# Altium footprint library WM7620CT-ND.PcbLib: 1 footprints
Each footprint in its own frame and in the unit in brackets; x right, y up, seen from the top. Pads: shape width x height; smd on the part's side, far side on the other; paste and mask are expansions set on the pad; w line width, h text height; cw(c..) or ccw(c..) is an arc to the next point about the centre after c.
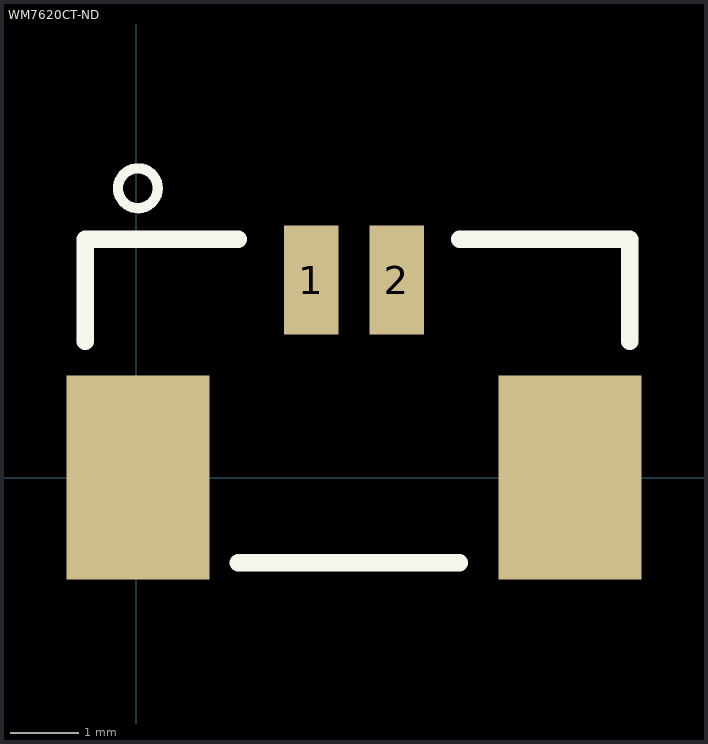
[diagram p0: the footprint, top view; thin cyan lines are the x and y axes]

## WM7620CT-ND [mm] "Molex PicoBlade 53261 2 Pos"
height 3.2
pads (4):
  rect 0.8x1.6 smd: 1(2.575,2.9) 2(3.825,2.9)
  rect 2.1x3 smd: ""(0.025,0) ""(6.375,0)
Top Overlay:
  circle w0.15: c0.025,4.25 r0.293
  lines w0.254: -0.75,2 -0.75,3.5 1.5,3.5 ; 1.5,-1.25 4.75,-1.25 ; 4.75,3.5 7.25,3.5 7.25,2
3D body "[PicoBlade 2 Pos] 532610271.stp": height 3.4, standoff 0, extent -0.575,-1.838 7.075,3.362